# Altium footprint library LQV103SYSV2.PcbLib: 2 footprints
Each footprint in its own frame and in the unit in brackets; x right, y up, seen from the top. Pads: shape width x height; smd on the part's side, far side on the other; paste and mask are expansions set on the pad; w line width, h text height; cw(c..) or ccw(c..) is an arc to the next point about the centre after c.
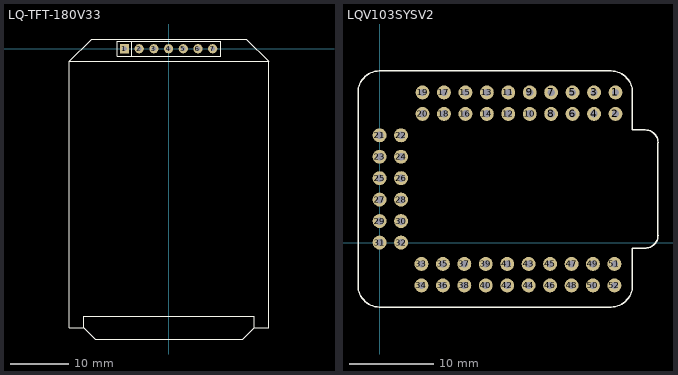
[diagram p0: the footprints below, top view; thin cyan lines are the x and y axes]

## LQ-TFT-180V33 [mm]
pads (7):
  rect 1.6x1.6 hole 0.82: 1(-7.62,0)
  round 1.6 hole 0.82: 2(-5.08,0) 3(-2.54,0) 4(0,0) 5(2.54,0) 6(5.08,0) 7(7.62,0)
Top Overlay:
  lines w0.2: -17.127,-2.203 -17.127,-48.203 -14.627,-48.203 ; -6.35,-1.27 -6.35,1.27 ; 17.273,-2.194 -17.128,-2.194 -13.249,1.685 -10.4,1.685 10.51,1.685 13.398,1.685 17.273,-2.19 17.273,-48.19 14.773,-48.19 ; -14.627,-48.203 -14.627,-46.203 14.773,-46.203 14.773,-48.19 ; -14.627,-48.203 -12.665,-50.165 -10.39,-50.165 10.51,-50.165 12.798,-50.165 14.773,-48.19 ; -8.89,-1.27 9,-1.27 9,1.27 -8.89,1.27 -8.89,-1.27

## LQV103SYSV2 [mm]
pads (52):
  round 1.65 hole 0.86: 1(27.94,17.78) 2(27.94,15.24) 3(25.4,17.78) 4(25.4,15.24) 5(22.86,17.78) 6(22.86,15.24) 7(20.32,17.78) 8(20.32,15.24) 9(17.78,17.78) 10(17.78,15.24) 11(15.24,17.78) 12(15.24,15.24) 13(12.7,17.78) 14(12.7,15.24) 15(10.16,17.78) 16(10.16,15.24) 17(7.62,17.78) 18(7.62,15.24) 19(5.08,17.78) 20(5.08,15.24) 33(4.953,-2.54) 34(4.953,-5.08) 35(7.493,-2.54) 36(7.493,-5.08) 37(10.033,-2.54) 38(10.033,-5.08) 39(12.573,-2.54) 40(12.573,-5.08) 41(15.113,-2.54) 42(15.113,-5.08) 43(17.653,-2.54) 44(17.653,-5.08) 45(20.193,-2.54) 46(20.193,-5.08) 47(22.733,-2.54) 48(22.733,-5.08) 49(25.273,-2.54) 50(25.273,-5.08) 51(27.813,-2.54) 52(27.813,-5.08)
  round 1.65 hole 0.88: 21(0,12.7) 22(2.54,12.7) 23(0,10.16) 24(2.54,10.16) 25(0,7.62) 26(2.54,7.62) 27(0,5.08) 28(2.54,5.08) 29(0,2.54) 30(2.54,2.54) 31(0,0) 32(2.54,0)
Top Overlay:
  lines w0.15: -0.021,-7.641 cw(c-0.021,-5.101) -2.561,-5.101 -2.561,17.78 cw(c-0.021,17.78) -0.021,20.32 27.413,20.32 cw(c27.413,17.78) 29.953,17.78 29.953,13.339 31.46,13.339 ; 0.026,-7.641 27.413,-7.641 ccw(c27.413,-5.101) 29.953,-5.101 29.953,-0.661 31.602,-0.661 ; 31.476,-0.661 ccw(c31.476,0.839) 32.976,0.839 ; 31.476,13.339 cw(c31.476,11.839) 32.976,11.839 ; 32.976,0.736 32.976,11.8
Bottom Overlay:
  lines w0.254: 26.963,19.07 28.995,19.07 ; 27.471,19.578 28.487,19.578 ; 27.855,20.09 28.109,20.09 ; 27.969,17.36 27.969,19.05
  text "5V" at 28.64,-7.31 h1
  text "C4" at 5.41,7.02 h1
  text "B3" at 28.68,-1.37 h1
  text "B12" at 6.013,-1.37 h1
  text "C9" at 13.45,-7.34 h1
  text "D1" at 13.24,18.92 h1
  text "A5" at -1.17,10.997 h1
  text "B14" at 8.68,-1.37 h1
  text "B13" at 6.008,-7.34 h1
  text "A9" at 16.09,-7.34 h1
  text "B5" at 26.089,12.99 h1
  text "B7" at 23.803,12.99 h1
  text "3V3" at 29.31,12.99 h1
  text "B15" at 8.827,-7.34 h1
  text "C6" at 10.86,-1.37 h1
  text "A8" at 15.84,-1.37 h1
  text "A10" at 18.62,-1.38 h1
  text "A12" at 21.33,-1.35 h1
  text "C10" at 23.92,-1.37 h1
  text "C11" at 23.97,-7.34 h1
  text "B4" at 25.871,18.92 h1
  text "B6" at 23.381,18.92 h1
  text "C14" at 19.15,12.99 h1
  text "C12" at 26.5,-1.37 h1
  text "B11" at 5.72,0.08 h1
  text "B2" at 5.39,1.98 h1
  text "B0" at 5.39,4.59 h1
  text "A4" at 5.53,11.81 h1
  text "C3" at 8.36,18.92 h1
  text "D0" at 16.081,12.99 h1
  text "B10" at -1.17,1.17 h1
  text "B1" at -1.17,3.22 h1
  text "C5" at -1.17,6.018 h1
  text "A7" at -1.17,8.558 h1
  text "A3" at -1.17,13.638 h1
  text "D2" at 26.06,-7.34 h1
  text "A0" at 8.538,12.99 h1
  text "C2" at 11.001,12.99 h1
  text "A1" at 5.754,18.92 h1
  text "C8" at 13.47,-1.37 h1
  text "A11" at 18.74,-7.34 h1
  text "A15" at 21.5,-7.34 h1
  text "A6" at 5.38,9.64 h1
  text "C1" at 10.732,18.92 h1
  text "C0" at 13.541,12.99 h1
  text "C15" at 16.29,18.92 h1
  text "B8" at 20.95,18.92 h1
  text "B9" at 21.263,12.99 h1
  text "C13" at 19.05,18.92 h1
  text "A2" at 5.97,12.99 h1
  text "C7" at 10.93,-7.34 h1